# EAGLE library part RGB-LED (library PX4FMUlite_V0_1)
RGB LED with separate anode/cathode terminals
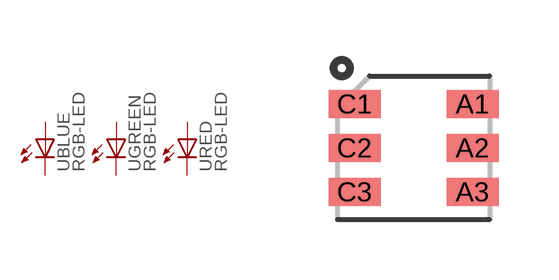
[diagram p17: symbol with the pads of 6-PLCC; footprint 6-PLCC]

Designator prefix U; gates BLUE=LED GREEN=LED RED=LED

## RGB-LED6-PLCC  [6-PLCC]
A1  BLUE:A  pas
A2  GREEN:A  pas
A3  RED:A  pas
C1  BLUE:C  pas
C2  GREEN:C  pas
C3  RED:C  pas

## Footprint 6-PLCC (pad centres in mm)
smd 1.3 x 0.7: A1 1.475,1.1; A2 1.475,0; A3 1.475,-1.1; C1 -1.475,1.1; C2 -1.475,0; C3 -1.475,-1.1